# Altium footprint library TE_6-146281-0.PcbLib: 1 footprints
Each footprint in its own frame and in the unit in brackets; x right, y up, seen from the top. Pads: shape width x height; smd on the part's side, far side on the other; paste and mask are expansions set on the pad; w line width, h text height; cw(c..) or ccw(c..) is an arc to the next point about the centre after c.
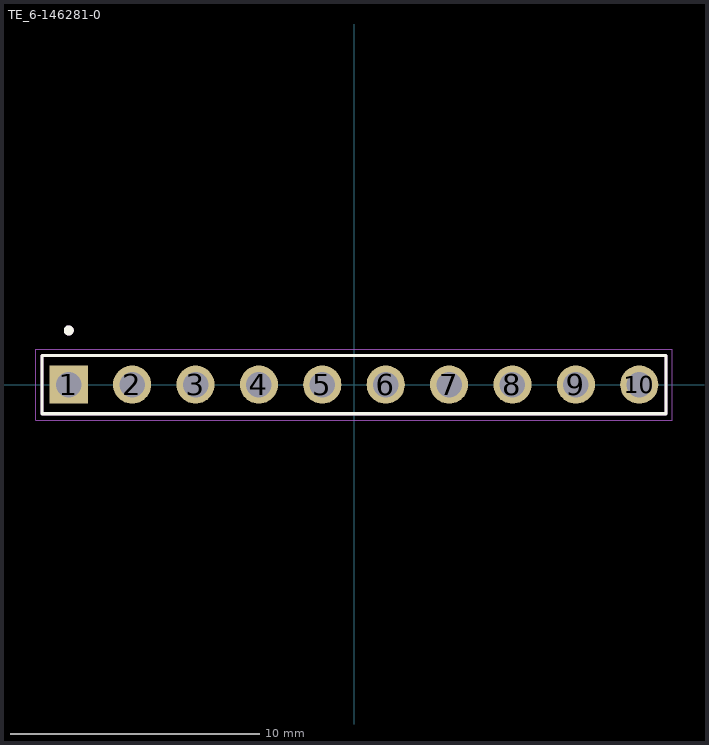
[diagram p0: the footprint, top view; thin cyan lines are the x and y axes]

## TE_6-146281-0 [mm]
pads (10):
  rect 1.53x1.53 hole 1.02: 1(-11.43,0)
  round 1.53 hole 1.02: 2(-8.89,0) 3(-6.35,0) 4(-3.81,0) 5(-1.27,0) 6(1.27,0) 7(3.81,0) 8(6.35,0) 9(8.89,0) 10(11.43,0)
Top Overlay:
  circle w0.2: c-11.43,2.17 r0.1
  lines w0.127: -12.5,-1.17 12.5,-1.17 12.5,1.17 -12.5,1.17 -12.5,-1.17
Mechanical 13:
  circle w0.2: c-11.43,2.17 r0.1
  lines w0.127: -12.5,-1.17 12.5,-1.17 12.5,1.17 -12.5,1.17 -12.5,-1.17
Mechanical 15:
  lines w0.05: -12.75,-1.42 12.75,-1.42 12.75,1.42 -12.75,1.42 -12.75,-1.42
3D body "header 10.STEP": height 5.84, standoff -5.33, extent -12.497,-1.168 12.497,1.168